# Altium schematic symbol library CY7C1011DV33.Schlib: 1 symbol
Pins are listed as number, name and electrical type; pins without a type are passive.

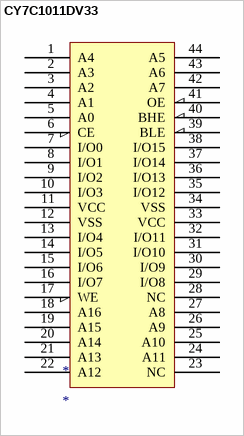
[diagram p0: symbol CY7C1011DV33]

## CY7C1011DV33
designator *
pins: 1 A4, 2 A3, 3 A2, 4 A1, 5 A0, 6 CE, 7 I/O0, 8 I/O1, 9 I/O2, 10 I/O3, 11 VCC, 12 VSS, 13 I/O4, 14 I/O5, 15 I/O6, 16 I/O7, 17 WE, 18 A16, 19 A15, 20 A14, 21 A13, 22 A12, 23 NC, 24 A11, 25 A10, 26 A9, 27 A8, 28 NC, 29 I/O8, 30 I/O9, 31 I/O10, 32 I/O11, 33 VCC, 34 VSS, 35 I/O12, 36 I/O13, 37 I/O14, 38 I/O15, 39 BLE, 40 BHE, 41 OE, 42 A7, 43 A6, 44 A5